# Altium footprint library Analog Devices Data Converters Analog-to-Digital Converters.PcbLib: 279 footprints (part 8 of 18)
Each footprint in its own frame and in the unit in brackets; x right, y up, seen from the top. Pads: shape width x height; smd on the part's side, far side on the other; paste and mask are expansions set on the pad; w line width, h text height; cw(c..) or ccw(c..) is an arc to the next point about the centre after c.
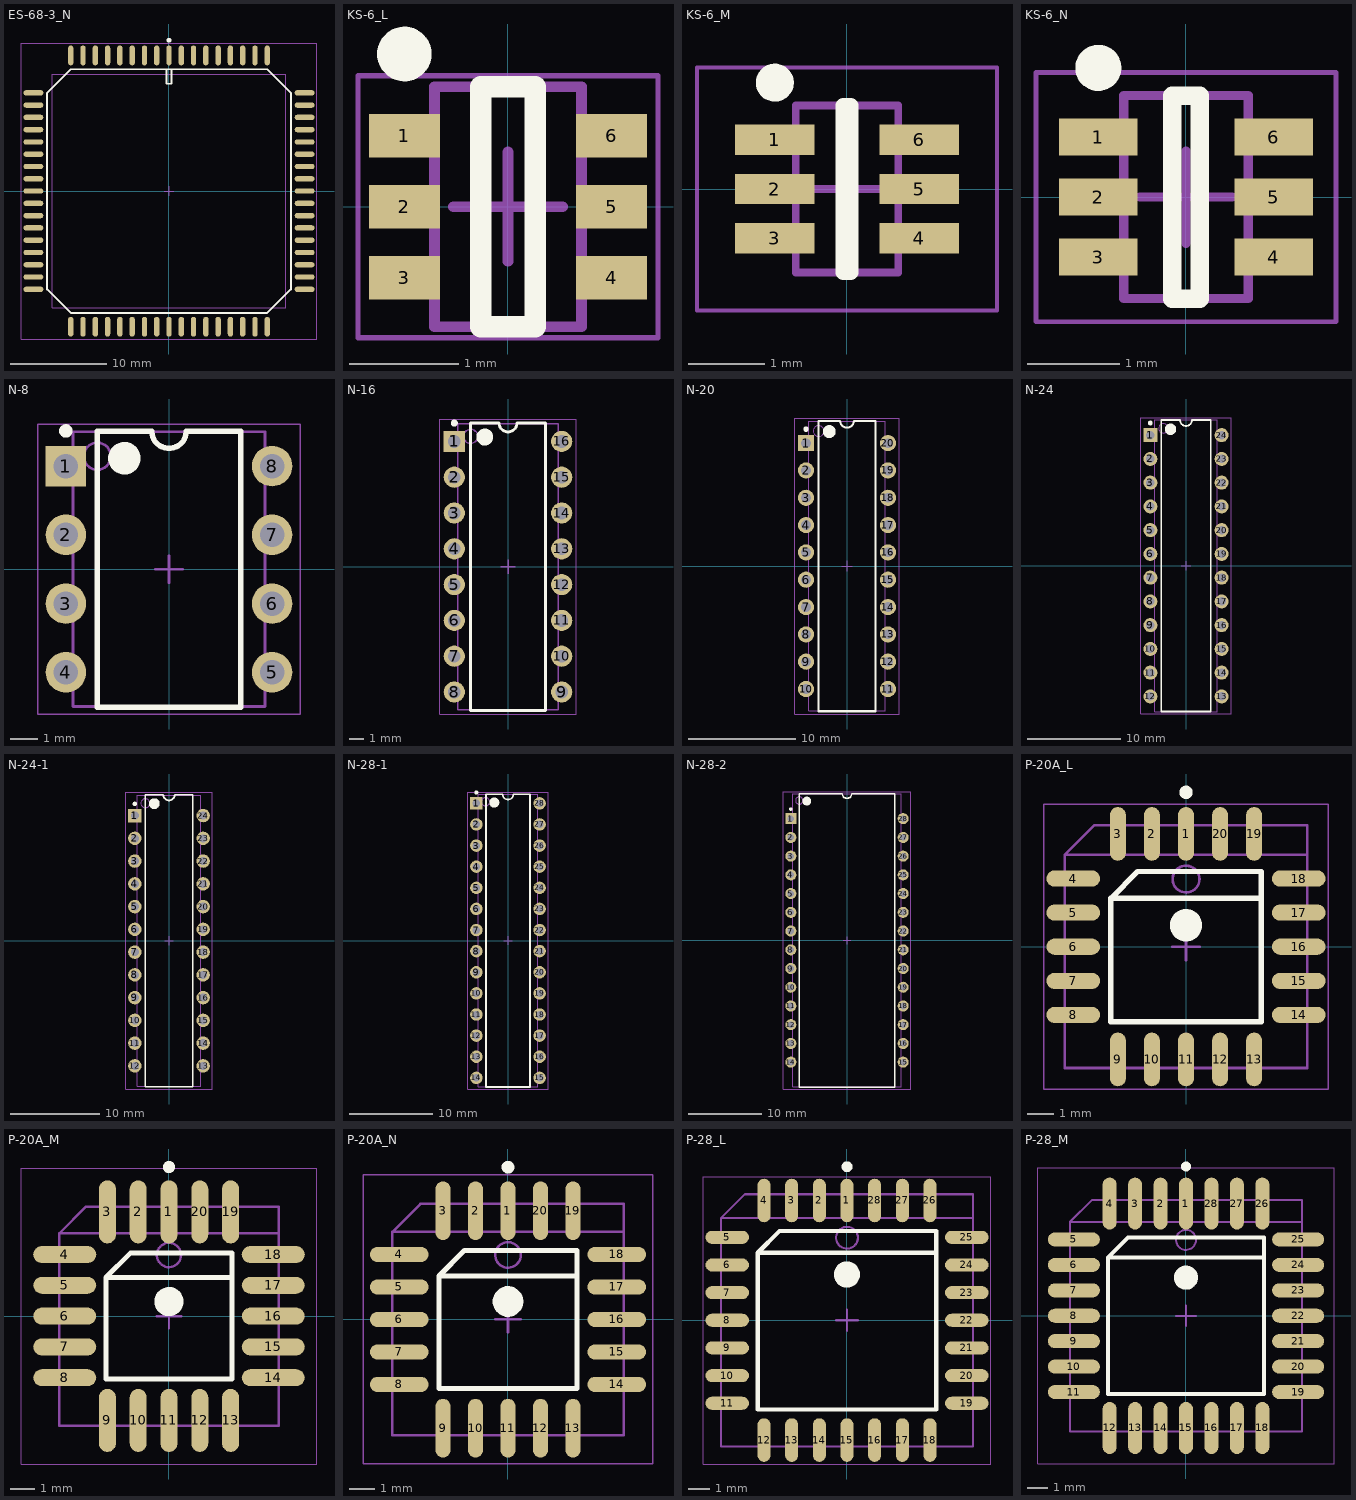
[diagram p7: the footprints below, top view; thin cyan lines are the x and y axes]

## ES-68-3_N [mm] "CQFP, 68-Leads, Body 24.1x24.1mm; Pitch 1.27mm, Gullwing Leadform, IPC Medium Density"
height 7.37
pads (68):
  oval 0.55x2.05 smd: 1(0,14.025) 2(-1.27,14.025) 3(-2.54,14.025) 4(-3.81,14.025) 5(-5.08,14.025) 6(-6.35,14.025) 7(-7.62,14.025) 8(-8.89,14.025) 9(-10.16,14.025) 27(-10.16,-14.025) 28(-8.89,-14.025) 29(-7.62,-14.025) 30(-6.35,-14.025) 31(-5.08,-14.025) 32(-3.81,-14.025) 33(-2.54,-14.025) 34(-1.27,-14.025) 35(0,-14.025) 36(1.27,-14.025) 37(2.54,-14.025) 38(3.81,-14.025) 39(5.08,-14.025) 40(6.35,-14.025) 41(7.62,-14.025) 42(8.89,-14.025) 43(10.16,-14.025) 61(10.16,14.025) 62(8.89,14.025) 63(7.62,14.025) 64(6.35,14.025) 65(5.08,14.025) 66(3.81,14.025) 67(2.54,14.025) 68(1.27,14.025)
  oval 2.05x0.55 smd: 10(-14.025,10.16) 11(-14.025,8.89) 12(-14.025,7.62) 13(-14.025,6.35) 14(-14.025,5.08) 15(-14.025,3.81) 16(-14.025,2.54) 17(-14.025,1.27) 18(-14.025,0) 19(-14.025,-1.27) 20(-14.025,-2.54) 21(-14.025,-3.81) 22(-14.025,-5.08) 23(-14.025,-6.35) 24(-14.025,-7.62) 25(-14.025,-8.89) 26(-14.025,-10.16) 44(14.025,-10.16) 45(14.025,-8.89) 46(14.025,-7.62) 47(14.025,-6.35) 48(14.025,-5.08) 49(14.025,-3.81) 50(14.025,-2.54) 51(14.025,-1.27) 52(14.025,0) 53(14.025,1.27) 54(14.025,2.54) 55(14.025,3.81) 56(14.025,5.08) 57(14.025,6.35) 58(14.025,7.62) 59(14.025,8.89) 60(14.025,10.16)
Top Overlay:
  circle w0.25: c0,15.6 r0.125
  lines w0.2: -0.25,12.6 -0.25,11.1 0.25,11.1 0.25,12.6 ; -12.6,-10.16 -10.16,-12.6 10.16,-12.6 12.6,-10.16 12.6,10.16 10.16,12.6 -10.16,12.6 -12.6,10.16 -12.6,-10.16
Mechanical 13:
  lines w0.1: -12.065,-12.065 12.065,-12.065 12.065,12.065 -12.065,12.065 -12.065,-12.065
Mechanical 15:
  lines w0.05: -15.3,-15.3 15.3,-15.3 15.3,15.3 -15.3,15.3 -15.3,-15.3
  lines w0.1: -0.5,0 0.5,0 ; 0,-0.5 0,0.5
3D body: height 7.37, standoff 1.02, extent -12.065,-12.065 12.065,12.065

## KS-6_L [mm] "SOT23, 6-Leads, Body 2x1.3mm, Pitch 0.65mm, Lead Span 2.1mm, IPC High Density"
height 1.1
pads (6):
  rect 0.65x0.4 smd: 1(-0.95,0.65) 2(-0.95,0) 3(-0.95,-0.65) 4(0.95,-0.65) 5(0.95,0) 6(0.95,0.65)
Top Overlay:
  circle w0.25: c-0.95,1.4 r0.125
  lines w0.2: -0.25,-1.1 -0.25,1.1 0.25,1.1 0.25,-1.1 -0.25,-1.1
Mechanical 13:
  lines w0.1: -0.675,-1.1 0.675,-1.1 0.675,1.1 -0.675,1.1 -0.675,-1.1
Mechanical 15:
  lines w0.05: -1.375,-1.2 1.375,-1.2 1.375,1.2 -1.375,1.2 -1.375,-1.2
  lines w0.1: -0.5,0 0.5,0 ; 0,-0.5 0,0.5
3D body: height 1.1, standoff 0, extent -0.675,-1.1 0.675,1.1

## KS-6_M [mm] "SOT23, 6-Leads, Body 2x1.3mm, Pitch 0.65mm, Lead Span 2.1mm, IPC Low Density"
height 1.1
pads (6):
  rect 1.05x0.4 smd: 1(-0.95,0.65) 2(-0.95,0) 3(-0.95,-0.65) 4(0.95,-0.65) 5(0.95,0) 6(0.95,0.65)
Top Overlay:
  circle w0.25: c-0.95,1.4 r0.125
  lines w0.2: -0.05,-1.1 0.05,-1.1 0.05,1.1 -0.05,1.1 -0.05,-1.1
Mechanical 13:
  lines w0.1: -0.675,-1.1 -0.675,1.1 0.675,1.1 0.675,-1.1 -0.675,-1.1
Mechanical 15:
  lines w0.05: -1.975,-1.6 -1.975,1.6 1.975,1.6 1.975,-1.6 -1.975,-1.6
  lines w0.1: -0.5,0 0.5,0 ; 0,-0.5 0,0.5
3D body: height 1.1, standoff 0, extent -0.675,-1.1 0.675,1.1

## KS-6_N [mm] "SOT23, 6-Leads, Body 2x1.3mm, Pitch 0.65mm, Lead Span 2.1mm, IPC Medium Density"
height 1.1
pads (6):
  rect 0.85x0.4 smd: 1(-0.95,0.65) 2(-0.95,0) 3(-0.95,-0.65) 4(0.95,-0.65) 5(0.95,0) 6(0.95,0.65)
Top Overlay:
  circle w0.25: c-0.95,1.4 r0.125
  lines w0.2: -0.15,-1.1 -0.15,1.1 0.15,1.1 0.15,-1.1 -0.15,-1.1
Mechanical 13:
  lines w0.1: -0.675,-1.1 0.675,-1.1 0.675,1.1 -0.675,1.1 -0.675,-1.1
Mechanical 15:
  lines w0.05: -1.625,-1.35 1.625,-1.35 1.625,1.35 -1.625,1.35 -1.625,-1.35
  lines w0.1: -0.5,0 0.5,0 ; 0,-0.5 0,0.5
3D body: height 1.1, standoff 0, extent -0.675,-1.1 0.675,1.1

## N-8 [mm] "DIP, 8-Leads, Row Spacing 7.62mm, Pitch 2.54mm, Body 9.6x6.6mm"
height 5.33
pads (8):
  rect 1.5x1.5 hole 0.9: 1(-3.81,3.81)
  round 1.5 hole 0.9: 2(-3.81,1.27) 3(-3.81,-1.27) 4(-3.81,-3.81) 5(3.81,-3.81) 6(3.81,-1.27) 7(3.81,1.27) 8(3.81,3.81)
Top Overlay:
  circle w0.25: c-3.81,5.11 r0.125
  circle w0.6: c-1.65,4.1 r0.3
  lines w0.2: -2.65,-5.1 -2.65,5.1 -0.635,5.1 ccw(c0,5.1) 0.635,5.1 2.65,5.1 2.65,-5.1 -2.65,-5.1
Mechanical 13:
  circle w0.1: c-2.65,4.175 r0.5
  lines w0.1: -3.55,-5.075 -3.55,5.075 3.55,5.075 3.55,-5.075 -3.55,-5.075
Mechanical 15:
  lines w0.05: -4.85,-5.35 -4.85,5.35 4.85,5.35 4.85,-5.35 -4.85,-5.35
  lines w0.1: -0.5,0 0.5,0 ; 0,-0.5 0,0.5
3D body: height 5.33, standoff 0.38, extent -3.55,-5.075 3.55,5.075

## N-16 [mm] "DIP, 16-Leads, Row Spacing 7.62mm, Pitch 2.54mm, Body 20.1x6.6mm"
height 5.33
pads (16):
  rect 1.5x1.5 hole 0.9: 1(-3.81,8.89)
  round 1.5 hole 0.9: 2(-3.81,6.35) 3(-3.81,3.81) 4(-3.81,1.27) 5(-3.81,-1.27) 6(-3.81,-3.81) 7(-3.81,-6.35) 8(-3.81,-8.89) 9(3.81,-8.89) 10(3.81,-6.35) 11(3.81,-3.81) 12(3.81,-1.27) 13(3.81,1.27) 14(3.81,3.81) 15(3.81,6.35) 16(3.81,8.89)
Top Overlay:
  circle w0.6: c-1.65,9.2 r0.3
  circle w0.25: c-3.81,10.19 r0.125
  lines w0.2: -2.65,-10.2 2.65,-10.2 2.65,10.2 0.635,10.2 cw(c0,10.2) -0.635,10.2 -2.65,10.2 -2.65,-10.2
Mechanical 13:
  circle w0.1: c-2.65,9.25 r0.5
  lines w0.1: -3.55,-10.15 3.55,-10.15 3.55,10.15 -3.55,10.15 -3.55,-10.15
Mechanical 15:
  lines w0.05: -4.85,-10.45 4.85,-10.45 4.85,10.45 -4.85,10.45 -4.85,-10.45
  lines w0.1: -0.5,0 0.5,0 ; 0,-0.5 0,0.5
3D body: height 5.33, standoff 0.38, extent -3.55,-10.15 3.55,10.15

## N-20 [mm] "DIP, 20-Leads, Row Spacing 7.62mm, Pitch 2.54mm, Body 25.9x6.6mm"
height 5.33
pads (20):
  rect 1.5x1.5 hole 0.9: 1(-3.81,11.43)
  round 1.5 hole 0.9: 2(-3.81,8.89) 3(-3.81,6.35) 4(-3.81,3.81) 5(-3.81,1.27) 6(-3.81,-1.27) 7(-3.81,-3.81) 8(-3.81,-6.35) 9(-3.81,-8.89) 10(-3.81,-11.43) 11(3.81,-11.43) 12(3.81,-8.89) 13(3.81,-6.35) 14(3.81,-3.81) 15(3.81,-1.27) 16(3.81,1.27) 17(3.81,3.81) 18(3.81,6.35) 19(3.81,8.89) 20(3.81,11.43)
Top Overlay:
  circle w0.25: c-3.81,12.73 r0.125
  circle w0.6: c-1.65,12.5 r0.3
  lines w0.2: -2.65,-13.5 -2.65,13.5 -0.635,13.5 ccw(c0,13.5) 0.635,13.5 2.65,13.5 2.65,-13.5 -2.65,-13.5
Mechanical 13:
  circle w0.1: c-2.65,12.55 r0.5
  lines w0.1: -3.55,-13.45 -3.55,13.45 3.55,13.45 3.55,-13.45 -3.55,-13.45
Mechanical 15:
  lines w0.05: -4.85,-13.75 -4.85,13.75 4.85,13.75 4.85,-13.75 -4.85,-13.75
  lines w0.1: -0.5,0 0.5,0 ; 0,-0.5 0,0.5
3D body: height 5.33, standoff 0.38, extent -3.55,-13.45 3.55,13.45

## N-24 [mm] "DIP, 24-Leads, Row Spacing 7.62mm, Pitch 2.54mm, Body 31.2x6.6mm"
height 5.33
pads (24):
  rect 1.5x1.5 hole 0.9: 1(-3.81,13.97)
  round 1.5 hole 0.9: 2(-3.81,11.43) 3(-3.81,8.89) 4(-3.81,6.35) 5(-3.81,3.81) 6(-3.81,1.27) 7(-3.81,-1.27) 8(-3.81,-3.81) 9(-3.81,-6.35) 10(-3.81,-8.89) 11(-3.81,-11.43) 12(-3.81,-13.97) 13(3.81,-13.97) 14(3.81,-11.43) 15(3.81,-8.89) 16(3.81,-6.35) 17(3.81,-3.81) 18(3.81,-1.27) 19(3.81,1.27) 20(3.81,3.81) 21(3.81,6.35) 22(3.81,8.89) 23(3.81,11.43) 24(3.81,13.97)
Top Overlay:
  circle w0.6: c-1.65,14.6 r0.3
  circle w0.25: c-3.81,15.27 r0.125
  lines w0.2: -2.65,-15.6 2.65,-15.6 2.65,15.6 0.635,15.6 cw(c0,15.6) -0.635,15.6 -2.65,15.6 -2.65,-15.6
Mechanical 13:
  circle w0.1: c-2.425,14.7 r0.5
  lines w0.1: -3.325,-15.6 3.325,-15.6 3.325,15.6 -3.325,15.6 -3.325,-15.6
Mechanical 15:
  lines w0.05: -4.85,-15.85 4.85,-15.85 4.85,15.85 -4.85,15.85 -4.85,-15.85
  lines w0.1: -0.5,0 0.5,0 ; 0,-0.5 0,0.5
3D body: height 5.33, standoff 0.38, extent -3.325,-15.6 3.325,15.6

## N-24-1 [mm] "DIP, 24-Leads, Row Spacing 7.62mm, Pitch 2.54mm, Body 31.9x6.6mm"
height 5.33
pads (24):
  rect 1.5x1.5 hole 0.9: 1(-3.81,13.97)
  round 1.5 hole 0.9: 2(-3.81,11.43) 3(-3.81,8.89) 4(-3.81,6.35) 5(-3.81,3.81) 6(-3.81,1.27) 7(-3.81,-1.27) 8(-3.81,-3.81) 9(-3.81,-6.35) 10(-3.81,-8.89) 11(-3.81,-11.43) 12(-3.81,-13.97) 13(3.81,-13.97) 14(3.81,-11.43) 15(3.81,-8.89) 16(3.81,-6.35) 17(3.81,-3.81) 18(3.81,-1.27) 19(3.81,1.27) 20(3.81,3.81) 21(3.81,6.35) 22(3.81,8.89) 23(3.81,11.43) 24(3.81,13.97)
Top Overlay:
  circle w0.6: c-1.65,15.3 r0.3
  circle w0.25: c-3.81,15.27 r0.125
  lines w0.2: -2.65,-16.3 2.65,-16.3 2.65,16.3 0.635,16.3 cw(c0,16.3) -0.635,16.3 -2.65,16.3 -2.65,-16.3
Mechanical 13:
  circle w0.1: c-2.65,15.35 r0.5
  lines w0.1: -3.55,-16.25 3.55,-16.25 3.55,16.25 -3.55,16.25 -3.55,-16.25
Mechanical 15:
  lines w0.05: -4.85,-16.55 4.85,-16.55 4.85,16.55 -4.85,16.55 -4.85,-16.55
  lines w0.1: -0.5,0 0.5,0 ; 0,-0.5 0,0.5
3D body: height 5.33, standoff 0.38, extent -3.55,-16.25 3.55,16.25

## N-28-1 [mm] "DIP, 28-Leads, Row Spacing 7.62mm, Pitch 2.54mm, Body 34.7x7.2mm"
height 4.57
pads (28):
  rect 1.5x1.5 hole 0.9: 1(-3.81,16.51)
  round 1.5 hole 0.9: 2(-3.81,13.97) 3(-3.81,11.43) 4(-3.81,8.89) 5(-3.81,6.35) 6(-3.81,3.81) 7(-3.81,1.27) 8(-3.81,-1.27) 9(-3.81,-3.81) 10(-3.81,-6.35) 11(-3.81,-8.89) 12(-3.81,-11.43) 13(-3.81,-13.97) 14(-3.81,-16.51) 15(3.81,-16.51) 16(3.81,-13.97) 17(3.81,-11.43) 18(3.81,-8.89) 19(3.81,-6.35) 20(3.81,-3.81) 21(3.81,-1.27) 22(3.81,1.27) 23(3.81,3.81) 24(3.81,6.35) 25(3.81,8.89) 26(3.81,11.43) 27(3.81,13.97) 28(3.81,16.51)
Top Overlay:
  circle w0.25: c-3.81,17.81 r0.125
  circle w0.6: c-1.65,16.6 r0.3
  lines w0.2: -2.65,-17.6 -2.65,17.6 -0.635,17.6 ccw(c0,17.6) 0.635,17.6 2.65,17.6 2.65,-17.6 -2.65,-17.6
Mechanical 13:
  circle w0.1: c-2.7,16.7 r0.5
  lines w0.1: -3.6,-17.6 -3.6,17.6 3.6,17.6 3.6,-17.6 -3.6,-17.6
Mechanical 15:
  lines w0.05: -4.85,-17.85 -4.85,17.85 4.85,17.85 4.85,-17.85 -4.85,-17.85
  lines w0.1: -0.5,0 0.5,0 ; 0,-0.5 0,0.5
3D body: height 4.57, standoff 0.38, extent -3.6,-17.6 3.6,17.6

## N-28-2 [mm] "DIP, 28-Leads, Row Spacing 15.55mm, Pitch 2.54mm, Body 37.4x13.5mm"
height 6.35
pads (28):
  rect 1.5x1.5 hole 0.9: 1(-7.62,16.51)
  round 1.5 hole 0.9: 2(-7.62,13.97) 3(-7.62,11.43) 4(-7.62,8.89) 5(-7.62,6.35) 6(-7.62,3.81) 7(-7.62,1.27) 8(-7.62,-1.27) 9(-7.62,-3.81) 10(-7.62,-6.35) 11(-7.62,-8.89) 12(-7.62,-11.43) 13(-7.62,-13.97) 14(-7.62,-16.51) 15(7.62,-16.51) 16(7.62,-13.97) 17(7.62,-11.43) 18(7.62,-8.89) 19(7.62,-6.35) 20(7.62,-3.81) 21(7.62,-1.27) 22(7.62,1.27) 23(7.62,3.81) 24(7.62,6.35) 25(7.62,8.89) 26(7.62,11.43) 27(7.62,13.97) 28(7.62,16.51)
Top Overlay:
  circle w0.25: c-7.62,17.81 r0.125
  circle w0.6: c-5.45,18.9 r0.3
  lines w0.2: -6.45,-19.9 -6.45,19.9 -0.635,19.9 ccw(c0,19.9) 0.635,19.9 6.45,19.9 6.45,-19.9 -6.45,-19.9
Mechanical 13:
  circle w0.1: c-6.475,18.975 r0.5
  lines w0.1: -7.375,-19.875 -7.375,19.875 7.375,19.875 7.375,-19.875 -7.375,-19.875
Mechanical 15:
  lines w0.05: -8.65,-20.15 -8.65,20.15 8.65,20.15 8.65,-20.15 -8.65,-20.15
  lines w0.1: -0.5,0 0.5,0 ; 0,-0.5 0,0.5
3D body: height 6.35, standoff 0.38, extent -7.375,-19.875 7.375,19.875

## P-20A_L [mm] "Leaded Chip Carrier, 20-Leads, Body 9x9mm, Pitch 1.27mm, IPC High Density"
height 4.58
pads (20):
  oval 0.6x2 smd: 1(0,4.2) 2(-1.27,4.2) 3(-2.54,4.2) 9(-2.54,-4.2) 10(-1.27,-4.2) 11(0,-4.2) 12(1.27,-4.2) 13(2.54,-4.2) 19(2.54,4.2) 20(1.27,4.2)
  oval 2x0.6 smd: 4(-4.2,2.54) 5(-4.2,1.27) 6(-4.2,0) 7(-4.2,-1.27) 8(-4.2,-2.54) 14(4.2,-2.54) 15(4.2,-1.27) 16(4.2,0) 17(4.2,1.27) 18(4.2,2.54)
Top Overlay:
  circle w0.6: c0,0.8 r0.3
  circle w0.25: c0,5.75 r0.125
  lines w0.2: 2.8,1.8 -2.8,1.8 ; -2.8,1.8 -2.8,-2.8 2.8,-2.8 2.8,2.8 -1.8,2.8 -2.8,1.8
Mechanical 13:
  circle w0.1: c0,2.52 r0.5
  lines w0.1: 4.52,3.42 -4.52,3.42 ; -4.52,3.42 -3.42,4.52 4.52,4.52 4.52,-4.52 -4.52,-4.52 -4.52,3.42
Mechanical 15:
  lines w0.05: -5.3,-5.3 5.3,-5.3 5.3,5.3 -5.3,5.3 -5.3,-5.3
  lines w0.1: -0.5,0 0.5,0 ; 0,-0.5 0,0.5
3D body: height 4.58, standoff 0.51, extent -4.52,-4.52 4.52,4.52

## P-20A_M [mm] "Leaded Chip Carrier, 20-Leads, Body 9x9mm, Pitch 1.27mm, IPC Low Density"
height 4.58
pads (20):
  oval 0.7x2.6 smd: 1(0,4.3) 2(-1.27,4.3) 3(-2.54,4.3) 9(-2.54,-4.3) 10(-1.27,-4.3) 11(0,-4.3) 12(1.27,-4.3) 13(2.54,-4.3) 19(2.54,4.3) 20(1.27,4.3)
  oval 2.6x0.7 smd: 4(-4.3,2.54) 5(-4.3,1.27) 6(-4.3,0) 7(-4.3,-1.27) 8(-4.3,-2.54) 14(4.3,-2.54) 15(4.3,-1.27) 16(4.3,0) 17(4.3,1.27) 18(4.3,2.54)
Top Overlay:
  circle w0.6: c0,0.6 r0.3
  circle w0.25: c0,6.15 r0.125
  lines w0.2: 2.6,1.6 -2.6,1.6 ; -2.6,1.6 -2.6,-2.6 2.6,-2.6 2.6,2.6 -1.6,2.6 -2.6,1.6
Mechanical 13:
  circle w0.1: c0,2.52 r0.5
  lines w0.1: 4.52,3.42 -4.52,3.42 ; -4.52,3.42 -3.42,4.52 4.52,4.52 4.52,-4.52 -4.52,-4.52 -4.52,3.42
Mechanical 15:
  lines w0.05: -6.1,-6.1 6.1,-6.1 6.1,6.1 -6.1,6.1 -6.1,-6.1
  lines w0.1: -0.5,0 0.5,0 ; 0,-0.5 0,0.5
3D body: height 4.58, standoff 0.51, extent -4.52,-4.52 4.52,4.52

## P-20A_N [mm] "Leaded Chip Carrier, 20-Leads, Body 9x9mm, Pitch 1.27mm, IPC Medium Density"
height 4.58
pads (20):
  oval 0.6x2.3 smd: 1(0,4.25) 2(-1.27,4.25) 3(-2.54,4.25) 9(-2.54,-4.25) 10(-1.27,-4.25) 11(0,-4.25) 12(1.27,-4.25) 13(2.54,-4.25) 19(2.54,4.25) 20(1.27,4.25)
  oval 2.3x0.6 smd: 4(-4.25,2.54) 5(-4.25,1.27) 6(-4.25,0) 7(-4.25,-1.27) 8(-4.25,-2.54) 14(4.25,-2.54) 15(4.25,-1.27) 16(4.25,0) 17(4.25,1.27) 18(4.25,2.54)
Top Overlay:
  circle w0.25: c0,5.95 r0.125
  circle w0.6: c0,0.7 r0.3
  lines w0.2: 2.7,1.7 -2.7,1.7 ; -2.7,1.7 -1.7,2.7 2.7,2.7 2.7,-2.7 -2.7,-2.7 -2.7,1.7
Mechanical 13:
  circle w0.1: c0,2.52 r0.5
  lines w0.1: 4.52,3.42 -4.52,3.42 ; -4.52,3.42 -4.52,-4.52 4.52,-4.52 4.52,4.52 -3.42,4.52 -4.52,3.42
Mechanical 15:
  lines w0.05: -5.65,-5.65 -5.65,5.65 5.65,5.65 5.65,-5.65 -5.65,-5.65
  lines w0.1: -0.5,0 0.5,0 ; 0,-0.5 0,0.5
3D body: height 4.58, standoff 0.51, extent -4.52,-4.52 4.52,4.52

## P-28_L [mm] "Leaded Chip Carrier, 28-Leads, Body 11.5x11.5mm, Pitch 1.27mm, IPC High Density"
height 4.57
pads (28):
  oval 0.6x2 smd: 1(0,5.5) 2(-1.27,5.5) 3(-2.54,5.5) 4(-3.81,5.5) 12(-3.81,-5.5) 13(-2.54,-5.5) 14(-1.27,-5.5) 15(0,-5.5) 16(1.27,-5.5) 17(2.54,-5.5) 18(3.81,-5.5) 26(3.81,5.5) 27(2.54,5.5) 28(1.27,5.5)
  oval 2x0.6 smd: 5(-5.5,3.81) 6(-5.5,2.54) 7(-5.5,1.27) 8(-5.5,0) 9(-5.5,-1.27) 10(-5.5,-2.54) 11(-5.5,-3.81) 19(5.5,-3.81) 20(5.5,-2.54) 21(5.5,-1.27) 22(5.5,0) 23(5.5,1.27) 24(5.5,2.54) 25(5.5,3.81)
Top Overlay:
  circle w0.6: c0,2.1 r0.3
  circle w0.25: c0,7.05 r0.125
  lines w0.2: 4.1,3.1 -4.1,3.1 ; -4.1,3.1 -4.1,-4.1 4.1,-4.1 4.1,4.1 -3.1,4.1 -4.1,3.1
Mechanical 13:
  circle w0.1: c0,3.79 r0.5
  lines w0.1: 5.79,4.69 -5.79,4.69 ; -5.79,4.69 -4.69,5.79 5.79,5.79 5.79,-5.79 -5.79,-5.79 -5.79,4.69
Mechanical 15:
  lines w0.05: -6.6,-6.6 6.6,-6.6 6.6,6.6 -6.6,6.6 -6.6,-6.6
  lines w0.1: -0.5,0 0.5,0 ; 0,-0.5 0,0.5
3D body: height 4.57, standoff 0.51, extent -5.79,-5.79 5.79,5.79

## P-28_M [mm] "Leaded Chip Carrier, 28-Leads, Body 11.5x11.5mm, Pitch 1.27mm, IPC Low Density"
height 4.57
pads (28):
  oval 0.7x2.6 smd: 1(0,5.6) 2(-1.27,5.6) 3(-2.54,5.6) 4(-3.81,5.6) 12(-3.81,-5.6) 13(-2.54,-5.6) 14(-1.27,-5.6) 15(0,-5.6) 16(1.27,-5.6) 17(2.54,-5.6) 18(3.81,-5.6) 26(3.81,5.6) 27(2.54,5.6) 28(1.27,5.6)
  oval 2.6x0.7 smd: 5(-5.6,3.81) 6(-5.6,2.54) 7(-5.6,1.27) 8(-5.6,0) 9(-5.6,-1.27) 10(-5.6,-2.54) 11(-5.6,-3.81) 19(5.6,-3.81) 20(5.6,-2.54) 21(5.6,-1.27) 22(5.6,0) 23(5.6,1.27) 24(5.6,2.54) 25(5.6,3.81)
Top Overlay:
  circle w0.6: c0,1.9 r0.3
  circle w0.25: c0,7.45 r0.125
  lines w0.2: 3.9,2.9 -3.9,2.9 ; -3.9,2.9 -3.9,-3.9 3.9,-3.9 3.9,3.9 -2.9,3.9 -3.9,2.9
Mechanical 13:
  circle w0.1: c0,3.79 r0.5
  lines w0.1: 5.79,4.69 -5.79,4.69 ; -5.79,4.69 -4.69,5.79 5.79,5.79 5.79,-5.79 -5.79,-5.79 -5.79,4.69
Mechanical 15:
  lines w0.05: -7.4,-7.4 7.4,-7.4 7.4,7.4 -7.4,7.4 -7.4,-7.4
  lines w0.1: -0.5,0 0.5,0 ; 0,-0.5 0,0.5
3D body: height 4.57, standoff 0.51, extent -5.79,-5.79 5.79,5.79